# Altium footprint library ZJUNlict_footprint.PcbLib: 113 footprints (part 1 of 8)
Each footprint in its own frame and in the unit in brackets; x right, y up, seen from the top. Pads: shape width x height; smd on the part's side, far side on the other; paste and mask are expansions set on the pad; w line width, h text height; cw(c..) or ccw(c..) is an arc to the next point about the centre after c.
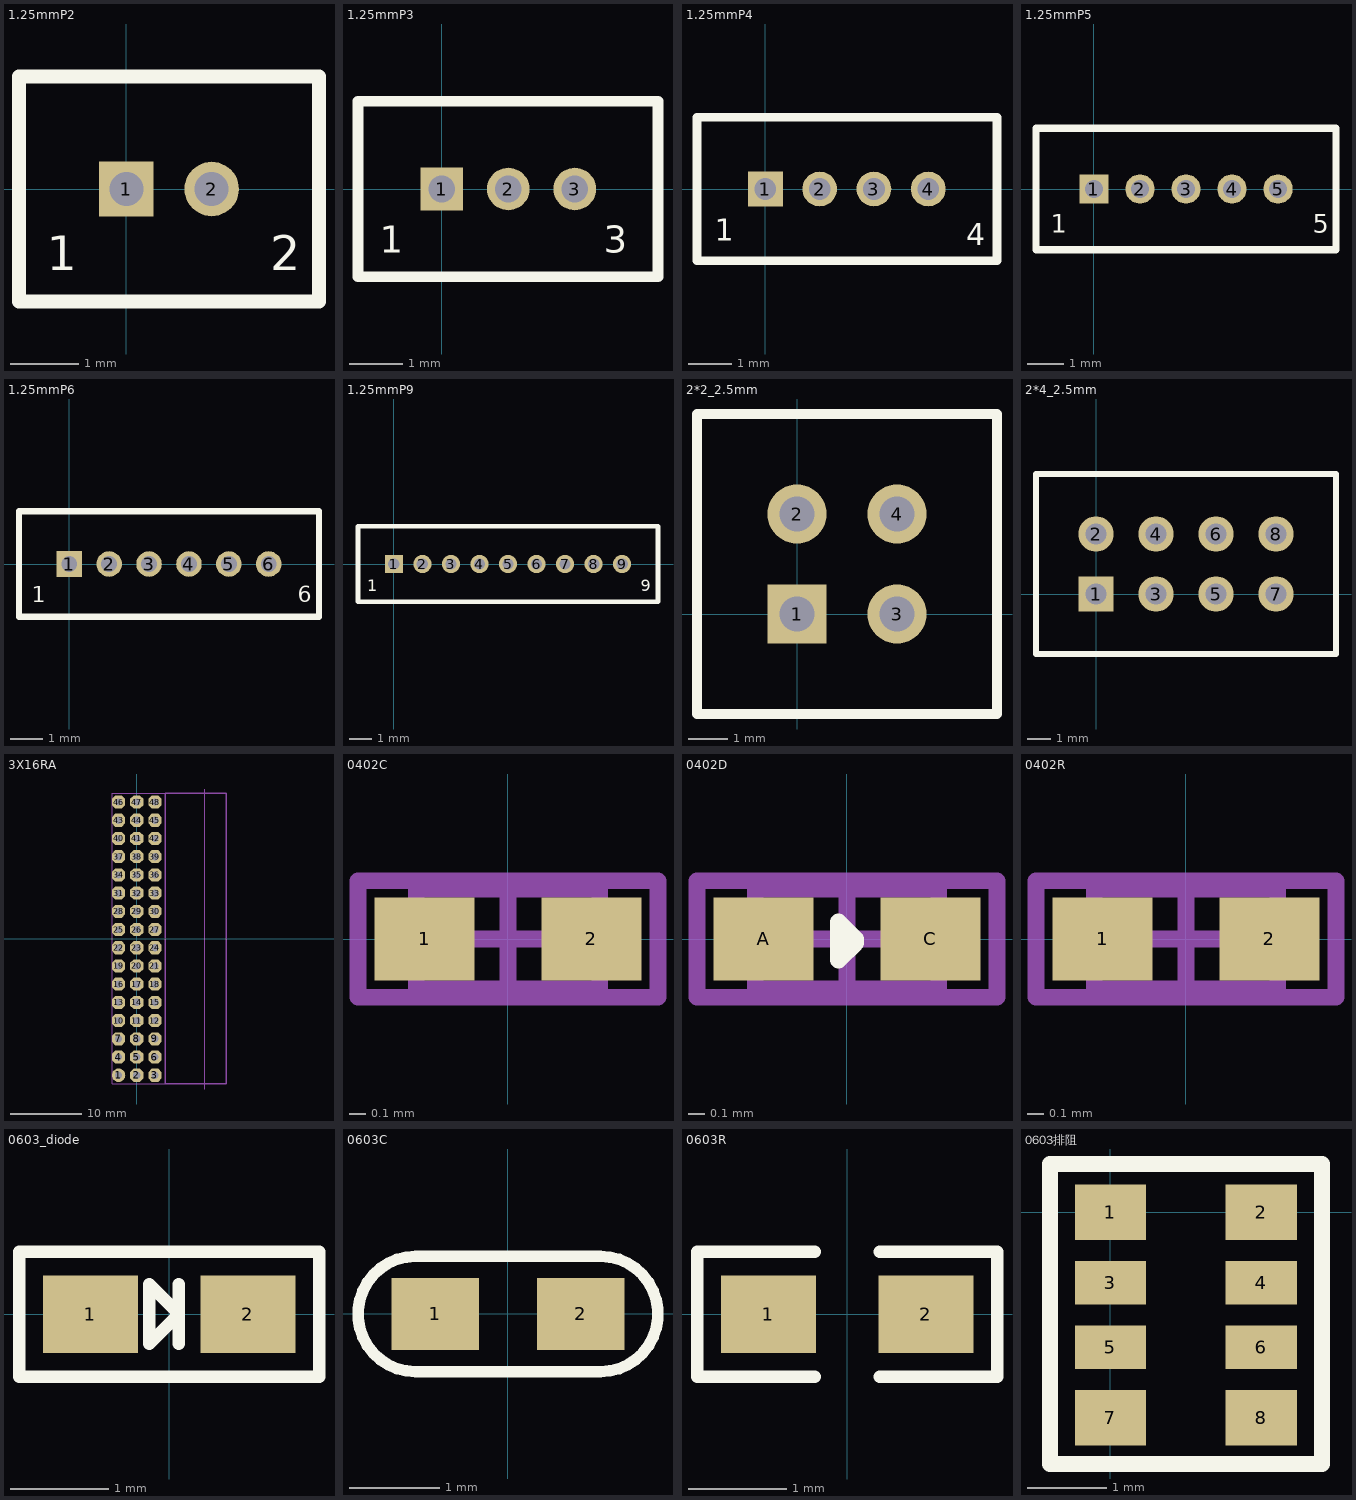
[diagram p0: the footprints below, top view; thin cyan lines are the x and y axes]

## 1.25mmP2 [mm]
pads (2):
  rect 0.8x0.8 hole 0.5: 1(0,0)
  round 0.8 hole 0.5: 2(1.25,0)
Top Overlay:
  lines w0.2: -1.575,-1.65 2.825,-1.65 2.825,1.65 -1.575,1.65 -1.575,-1.65
  text "1" at -1.168,-1.194 h0.51
  text "2" at 2.108,-1.194 h0.51

## 1.25mmP3 [mm]
pads (3):
  rect 0.8x0.8 hole 0.5: 1(0,0)
  round 0.8 hole 0.5: 2(1.25,0) 3(2.5,0)
Top Overlay:
  lines w0.2: -1.575,-1.65 4.064,-1.65 4.064,1.65 -1.575,1.65 -1.575,-1.65
  text "1" at -1.168,-1.194 h0.51
  text "3" at 3.048,-1.194 h0.51

## 1.25mmP4 [mm]
pads (4):
  rect 0.8x0.8 hole 0.5: 1(0,0)
  round 0.8 hole 0.5: 2(1.25,0) 3(2.5,0) 4(3.75,0)
Top Overlay:
  lines w0.2: -1.575,-1.65 5.334,-1.65 5.334,1.65 -1.575,1.65 -1.575,-1.65
  text "1" at -1.168,-1.194 h0.51
  text "4" at 4.623,-1.295 h0.51

## 1.25mmP5 [mm]
pads (5):
  rect 0.8x0.8 hole 0.5: 1(0,0)
  round 0.8 hole 0.5: 2(1.25,0) 3(2.5,0) 4(3.75,0) 5(5,0)
Top Overlay:
  lines w0.2: -1.575,-1.65 6.575,-1.65 6.575,1.65 -1.575,1.65 -1.575,-1.65
  text "1" at -1.168,-1.194 h0.51
  text "5" at 5.944,-1.194 h0.51

## 1.25mmP6 [mm]
pads (6):
  rect 0.8x0.8 hole 0.5: 1(0,0)
  round 0.8 hole 0.5: 2(1.25,0) 3(2.5,0) 4(3.75,0) 5(5,0) 6(6.25,0)
Top Overlay:
  lines w0.2: -1.575,-1.65 7.825,-1.65 7.825,1.65 -1.575,1.65 -1.575,-1.65
  text "1" at -1.168,-1.194 h0.51
  text "6" at 7.163,-1.194 h0.51

## 1.25mmP9 [mm]
pads (9):
  rect 0.8x0.8 hole 0.5: 1(0,0)
  round 0.8 hole 0.5: 2(1.25,0) 3(2.5,0) 4(3.75,0) 5(5,0) 6(6.25,0) 7(7.5,0) 8(8.75,0) 9(10,0)
Top Overlay:
  lines w0.2: -1.575,-1.65 -1.575,1.65 11.575,1.65 11.575,-1.65 -1.575,-1.65
  text "9" at 10.82,-1.194 h0.51
  text "1" at -1.168,-1.194 h0.51

## 2*2_2.5mm [mm]
pads (4):
  rect 1.5x1.5 hole 0.9: 1(0,0)
  round 1.5 hole 0.9: 2(0,2.54) 3(2.54,0) 4(2.54,2.54)
Top Overlay:
  lines w0.254: -2.54,-2.54 -2.54,5.08 5.08,5.08 5.08,-2.54 -2.54,-2.54

## 2*4_2.5mm [mm]
pads (8):
  rect 1.5x1.5 hole 0.9: 1(0,0)
  round 1.5 hole 0.9: 2(0,2.54) 3(2.54,0) 4(2.54,2.54) 5(5.08,0) 6(5.08,2.54) 7(7.62,0) 8(7.62,2.54)
Top Overlay:
  lines w0.254: -2.54,-2.54 10.16,-2.54 10.16,5.08 -2.54,5.08 -2.54,-2.54

## 3X16RA [mil] "3X16RA"
pads (48):
  round 74 hole 40: 1(-100,-750)
  oct 71.65x71.65 hole 40: 2(0,-750) 3(100,-750) 4(-100,-650) 5(0,-650) 6(100,-650) 7(-100,-550) 8(0,-550) 9(100,-550) 10(-100,-450) 11(0,-450) 12(100,-450) 13(-100,-350) 14(0,-350) 15(100,-350) 16(-100,-250) 17(0,-250) 18(100,-250) 19(-100,-150) 20(0,-150) 21(100,-150) 22(-100,-50) 23(0,-50) 24(100,-50) 25(-100,50) 26(0,50) 27(100,50) 28(-100,150) 29(0,150) 30(100,150) 31(-100,250) 32(0,250) 33(100,250) 34(-100,350) 35(0,350) 36(100,350) 37(-100,450) 38(0,450) 39(100,450) 40(-100,550) 41(0,550) 42(100,550) 43(-100,650) 44(0,650) 45(100,650) 46(-100,750) 47(0,750) 48(100,750)
Mechanical 16:
  region: -90,740 -90,760 -110,760 -110,740
  region: 110,640 110,660 90,660 90,640
  region: 10,640 10,660 -10,660 -10,640
  region: -90,640 -90,660 -110,660 -110,640
  region: 110,540 110,560 90,560 90,540
  region: 10,540 10,560 -10,560 -10,540
  region: -90,540 -90,560 -110,560 -110,540
  region: 110,440 110,460 90,460 90,440
  region: 10,440 10,460 -10,460 -10,440
  region: -90,440 -90,460 -110,460 -110,440
  region: 110,340 110,360 90,360 90,340
  region: -90,340 -90,360 -110,360 -110,340
  region: 10,340 10,360 -10,360 -10,340
  region: 110,240 110,260 90,260 90,240
  region: 10,240 10,260 -10,260 -10,240
  region: -90,240 -90,260 -110,260 -110,240
  region: 10,740 10,760 -10,760 -10,740
  region: 110,740 110,760 90,760 90,740
  region: 10,140 10,160 -10,160 -10,140
  region: 110,140 110,160 90,160 90,140
  region: 110,40 110,60 90,60 90,40
  region: -90,140 -90,160 -110,160 -110,140
  region: 10,40 10,60 -10,60 -10,40
  region: -90,40 -90,60 -110,60 -110,40
  region: -90,-60 -90,-40 -110,-40 -110,-60
  region: 110,-160 110,-140 90,-140 90,-160
  region: 10,-160 10,-140 -10,-140 -10,-160
  region: -90,-160 -90,-140 -110,-140 -110,-160
  region: 110,-260 110,-240 90,-240 90,-260
  region: 10,-260 10,-240 -10,-240 -10,-260
  region: -90,-260 -90,-240 -110,-240 -110,-260
  region: 110,-360 110,-340 90,-340 90,-360
  region: 10,-360 10,-340 -10,-340 -10,-360
  region: -90,-360 -90,-340 -110,-340 -110,-360
  region: 110,-460 110,-440 90,-440 90,-460
  region: -90,-460 -90,-440 -110,-440 -110,-460
  region: 10,-460 10,-440 -10,-440 -10,-460
  region: 110,-560 110,-540 90,-540 90,-560
  region: 10,-560 10,-540 -10,-540 -10,-560
  region: -90,-560 -90,-540 -110,-540 -110,-560
  region: 10,-60 10,-40 -10,-40 -10,-60
  region: 110,-60 110,-40 90,-40 90,-60
  region: 10,-660 10,-640 -10,-640 -10,-660
  region: 110,-660 110,-640 90,-640 90,-660
  region: 110,-760 110,-740 90,-740 90,-760
  region: -90,-660 -90,-640 -110,-640 -110,-660
  region: 10,-760 10,-740 -10,-740 -10,-760
  region: -90,-760 -90,-740 -110,-740 -110,-760
  lines w0.38: -135.04,-797.64 -135.04,2.36 -135.04,797.64 490.94,797.64 490.94,2.36 490.94,-797.64 -135.04,-797.64
  lines w5: 372.83,-825.59 372.83,21.65 ; 372.83,-25.59 372.83,821.65
  lines w8: 156.3,-1.97 156.3,-798.03 490.94,-798.03 490.94,-1.97 ; 156.3,1.97 156.3,798.03 490.94,798.03 490.94,1.97

## 0402C [mm] "Chip Capacitor, Body 1.0x0.5mm, IPC High Density"
height 1.3
pads (2):
  rect 0.6x0.5 smd: 1(-0.5,0) 2(0.5,0)
Mechanical 13:
  lines w0.1: -0.55,-0.3 -0.55,0.3 0.55,0.3 0.55,-0.3 -0.55,-0.3
Mechanical 15:
  lines w0.1: -0.3,0 0.3,0 ; 0,-0.3 0,0.3 ; -0.9,-0.35 -0.9,0.35 0.9,0.35 0.9,-0.35 -0.9,-0.35
3D body: height 1.3, standoff 0, extent -0.55,-0.3 0.55,0.3

## 0402D [mm] "Chip Capacitor, Body 1.0x0.5mm, IPC High Density"
height 1.3
pads (2):
  rect 0.6x0.5 smd: A(-0.5,0) C(0.5,0)
Top Overlay:
  lines w0.102: -0.051,-0.127 -0.051,0.102 0.051,0 0.051,-0.025 -0.051,-0.127
Mechanical 13:
  lines w0.1: -0.55,-0.3 -0.55,0.3 0.55,0.3 0.55,-0.3 -0.55,-0.3
Mechanical 15:
  lines w0.1: -0.3,0 0.3,0 ; 0,-0.3 0,0.3 ; -0.9,-0.35 -0.9,0.35 0.9,0.35 0.9,-0.35 -0.9,-0.35
3D body: height 1.3, standoff 0, extent -0.55,-0.3 0.55,0.3

## 0402R [mm] "Chip Capacitor, Body 1.0x0.5mm, IPC High Density"
height 1.3
pads (2):
  rect 0.6x0.5 smd: 1(-0.5,0) 2(0.5,0)
Mechanical 13:
  lines w0.1: -0.55,-0.3 0.55,-0.3 0.55,0.3 -0.55,0.3 -0.55,-0.3
Mechanical 15:
  lines w0.1: -0.3,0 0.3,0 ; 0,-0.3 0,0.3 ; -0.9,-0.35 0.9,-0.35 0.9,0.35 -0.9,0.35 -0.9,-0.35
3D body: height 1.3, standoff 0, extent -0.55,-0.3 0.55,0.3

## 0603_diode [mil]
pads (2):
  rect 38x31 smd: 1(-31.5,0) 2(31.5,0)
Top Overlay:
  lines w5: 3.94,-11.81 3.94,11.81 ; -60,-25 60,-25 60,25 -60,25 -60,-25 ; -7.87,-11.81 -7.87,11.81 3.94,0 -7.87,-11.81

## 0603C [mil]
pads (2):
  rect 38x31 smd: 1(-31.5,0) 2(31.5,0)
Top Overlay:
  lines w5: -39.98,-25 cw(c-40,0) -39.98,25 40,25 cw(c40,0) 40,-25 -39.98,-25

## 0603R [mil]
pads (2):
  rect 38x31 smd: 1(-31.5,0) 2(31.5,0)
Top Overlay:
  lines w5: -13,-25 -60,-25 -60,25 -13,25 ; 13,-25 60,-25 60,25 13,25

## 0603排阻 [mm]
pads (8):
  rect 0.9x0.7 smd: 1(0,0) 2(1.9,0) 7(0,-2.591) 8(1.9,-2.591)
  rect 0.9x0.55 smd: 3(0,-0.889) 4(1.9,-0.889) 5(0,-1.702) 6(1.9,-1.702)
Top Overlay:
  lines w0.203: -0.762,-3.175 -0.762,0.61 2.667,0.61 2.667,-3.175 -0.762,-3.175